# EAGLE library part OPA1637 (library ICs)
OPA1637 High-Fidelity, Low-Noise, Fully-Differential, Burr-Brown Audio Operational Amplifier
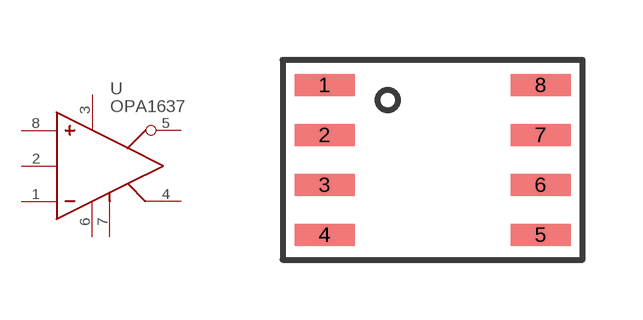
[diagram p259: symbol with the pads of SO8; footprint SO8]

Designator prefix U

## OPA1637 (DIGIKEY: 296-OPA1637DGKRCT-ND; HEIGHT: 1.5; PRICE_PER: 2.26; VALUE: OPA1637)  [SO8]
1  IN-
2  VCOM
3  V+
4  OUT+
5  OUT-
6  V-
7  !PD
8  IN+

## Footprint SO8 (pad centres in mm)
smd 1.5 x 0.55: 1 -2.7,1.875; 2 -2.7,0.625; 3 -2.7,-0.625; 4 -2.7,-1.875; 5 2.7,-1.875; 6 2.7,-0.625; 7 2.7,0.625; 8 2.7,1.875